# Altium footprint library BridgeC.PcbLib: 38 footprints (part 1 of 3)
Each footprint in its own frame and in the unit in brackets; x right, y up, seen from the top. Pads: shape width x height; smd on the part's side, far side on the other; paste and mask are expansions set on the pad; w line width, h text height; cw(c..) or ccw(c..) is an arc to the next point about the centre after c.
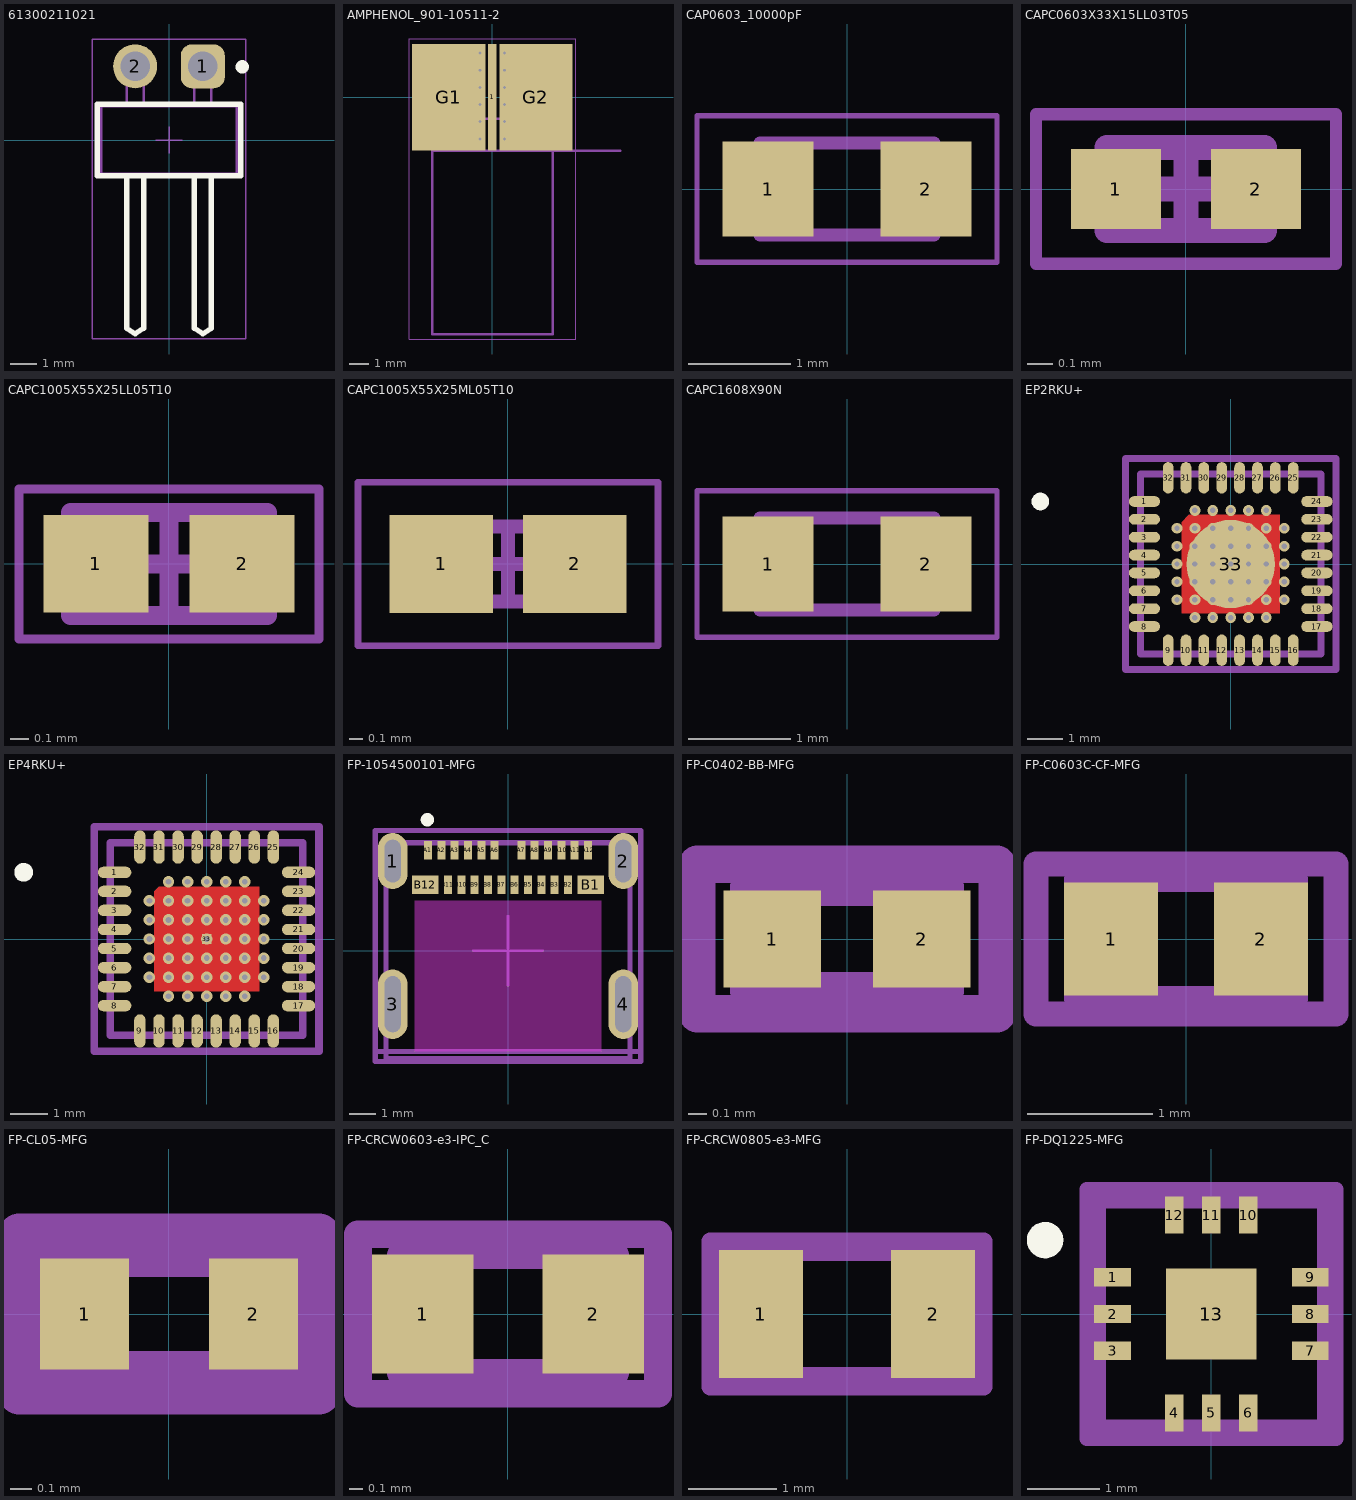
[diagram p0: the footprints below, top view; thin cyan lines are the x and y axes]

## 61300211021 [mm] "Pin Header, pitch 2.54 mm, THT, Angled, single row, 2p"
height 2.54
pads (2):
  rrect50% 1.65x1.65 hole 1.1: 1(1.27,2.77)
  round 1.65 hole 1.1: 2(-1.27,2.77)
Top Overlay:
  circle w0.25: c2.75,2.75 r0.125
  lines w0.2: -1.59,-1.345 -1.59,-7.07 -1.27,-7.27 -0.95,-7.07 -0.95,-1.345 ; 0.95,-1.345 0.95,-7.07 1.27,-7.27 1.59,-7.07 1.59,-1.345 ; -2.69,-1.345 2.69,-1.345 2.69,1.345 -2.69,1.345 -2.69,-1.345
Top Courtyard:
  lines w0.05: -2.89,-7.47 2.89,-7.47 2.89,3.795 -2.89,3.795 -2.89,-7.47
Top Designator:
  text ".Designator" at -7.498,-0.5 h1.5
Top Component Outline:
  lines w0.1: -1.59,-1.27 -1.59,-7.07 -1.27,-7.27 -0.95,-7.07 -0.95,-1.27 ; -1.59,1.27 -1.59,3.09 -0.95,3.09 -0.95,1.27 ; 0.95,-1.27 0.95,-7.07 1.27,-7.27 1.59,-7.07 1.59,-1.27 ; 0.95,1.27 0.95,3.09 1.59,3.09 1.59,1.27 ; -2.54,-1.27 -2.54,1.27 2.54,1.27 2.54,-1.27 -2.54,-1.27
Top Component Center:
  lines w0.05: -0.5,0 0.5,0 ; 0,-0.5 0,0.5
3D body "61300211021.stp": height 2.58, standoff -2.96, extent -2.54,-7.27 2.54,3.09

## AMPHENOL_901-10511-2 [mm] "SMA Straight End Launch Jack, .010 Pin, .068  PCB, Edge-Mount, High Frequency"
height 6.327
pads (3):
  rect 0.445x5.54 smd mask+0: 1(0,0)
  rect 3.8x5.54 smd mask+0: G1(-2.26,0) G2(2.26,0)
via 0.635,2.286 diameter 0.305 hole 0.152
via 0.635,1.397 diameter 0.305 hole 0.152
via 0.635,0.508 diameter 0.305 hole 0.152
via 0.635,-0.381 diameter 0.305 hole 0.152
via 0.635,-1.27 diameter 0.305 hole 0.152
via -0.635,2.286 diameter 0.305 hole 0.152
via -0.635,1.397 diameter 0.305 hole 0.152
via -0.635,0.508 diameter 0.305 hole 0.152
via -0.635,-0.381 diameter 0.305 hole 0.152
via -0.635,-1.27 diameter 0.305 hole 0.152
via 0.635,-2.159 diameter 0.305 hole 0.152
via -0.635,-2.159 diameter 0.305 hole 0.152
Mechanical 13:
  lines w0.127: -3.129,-2.77 6.65,-2.77
  text "PCB Edge" at 4.5,-2.5 h0.81
Mechanical 14:
  lines w0.127: -3.129,-12.3 3.129,-12.3 3.129,-1.119 -3.129,-1.119 -3.129,-12.3
Mechanical 15:
  lines w0.05: -4.315,-12.55 4.315,-12.55 4.315,3.02 -4.315,3.02 -4.315,-12.55
Top Component Center:
  lines w0.05: -4.315,-12.55 4.315,-12.55 4.315,3.02 -4.315,3.02 -4.315,-12.55
3D body "901-10511-2.stp": height 3.1, standoff -3.1, extent -3.134,-12.3 3.134,1.78

## CAP0603_10000pF [mm]
pads (2):
  rect 0.89x0.93 smd: 1(-0.77,0) 2(0.77,0)
Mechanical 13:
  lines w0.127: -0.85,-0.45 0.85,-0.45 0.85,0.45 -0.85,0.45 -0.85,-0.45
Mechanical 15:
  lines w0.05: -1.465,-0.715 1.465,-0.715 1.465,0.715 -1.465,0.715 -1.465,-0.715
3D body "step_temp.STEP": height 0.9, standoff 0, extent -0.8,-0.4 0.8,0.4

## CAPC0603X33X15LL03T05 [mm] "Chip Capacitor, 2-Leads, Body 0.60x0.30mm, IPC High Density"
height 0.33
pads (2):
  rect 0.36x0.32 smd: 1(-0.28,0) 2(0.28,0)
Mechanical 13:
  lines w0.1: -0.315,-0.165 -0.315,0.165 0.315,0.165 0.315,-0.165 -0.315,-0.165
Mechanical 15:
  lines w0.05: -0.6,-0.3 -0.6,0.3 0.6,0.3 0.6,-0.3 -0.6,-0.3
  lines w0.1: -0.165,0 0.165,0 ; 0,-0.165 0,0.165
3D body: height 0.33, standoff 0, extent -0.165,-0.165 0.165,0.165
3D body: height 0.33, standoff 0, extent -0.315,-0.165 -0.165,0.165
3D body: height 0.33, standoff 0, extent 0.165,-0.165 0.315,0.165

## CAPC1005X55X25LL05T10 [mm] "Chip Capacitor, 2-Leads, Body 1.00x0.50mm, IPC High Density"
height 0.55
pads (2):
  rect 0.56x0.52 smd: 1(-0.39,0) 2(0.39,0)
Mechanical 13:
  lines w0.1: -0.525,-0.275 -0.525,0.275 0.525,0.275 0.525,-0.275 -0.525,-0.275
Mechanical 15:
  lines w0.05: -0.8,-0.4 -0.8,0.4 0.8,0.4 0.8,-0.4 -0.8,-0.4
  lines w0.1: -0.275,0 0.275,0 ; 0,-0.275 0,0.275
3D body: height 0.55, standoff 0, extent -0.275,-0.275 0.275,0.275
3D body: height 0.55, standoff 0, extent -0.525,-0.275 -0.275,0.275
3D body: height 0.55, standoff 0, extent 0.275,-0.275 0.525,0.275

## CAPC1005X55X25ML05T10 [mm] "Chip Capacitor, 2-Leads, Body 1.00x0.50mm, IPC Low Density"
height 0.55
pads (2):
  rect 0.76x0.72 smd: 1(-0.49,0) 2(0.49,0)
Mechanical 13:
  lines w0.1: -0.525,-0.275 0.525,-0.275 0.525,0.275 -0.525,0.275 -0.525,-0.275
Mechanical 15:
  lines w0.05: -1.1,-0.6 1.1,-0.6 1.1,0.6 -1.1,0.6 -1.1,-0.6
  lines w0.1: -0.275,0 0.275,0 ; 0,-0.275 0,0.275
3D body: height 0.55, standoff 0, extent 0.275,-0.275 0.525,0.275
3D body: height 0.55, standoff 0, extent -0.525,-0.275 -0.275,0.275
3D body: height 0.55, standoff 0, extent -0.275,-0.275 0.275,0.275

## CAPC1608X90N [mm]
pads (2):
  rect 0.89x0.93 smd: 1(-0.77,0) 2(0.77,0)
Mechanical 13:
  lines w0.127: -0.85,-0.45 0.85,-0.45 0.85,0.45 -0.85,0.45 -0.85,-0.45
Mechanical 15:
  lines w0.05: -1.465,-0.715 1.465,-0.715 1.465,0.715 -1.465,0.715 -1.465,-0.715
3D body "step_temp.STEP": height 0.9, standoff 0, extent -0.8,-0.4 0.8,0.4

## EP2RKU+ [mil] "2 Ways MMIC Power Splitter, DC - 18000 MHz, 50?"
pads (33):
  rrect100% 35x12 smd paste+0 mask+0: 1(-96.5,70) 2(-96.5,50) 3(-96.5,30) 4(-96.5,10) 5(-96.5,-10) 6(-96.5,-30) 7(-96.5,-50) 8(-96.5,-70) 17(96.5,-70) 18(96.5,-50) 19(96.5,-30) 20(96.5,-10) 21(96.5,10) 22(96.5,30) 23(96.5,50) 24(96.5,70)
  rrect100% 12x35 smd paste+0 mask+0: 9(-70,-96.5) 10(-50,-96.5) 11(-30,-96.5) 12(-10,-96.5) 13(10,-96.5) 14(30,-96.5) 15(50,-96.5) 16(70,-96.5) 25(70,96.5) 26(50,96.5) 27(30,96.5) 28(10,96.5) 29(-10,96.5) 30(-30,96.5) 31(-50,96.5) 32(-70,96.5)
  round 99 smd paste+0 mask+0: 33(0,0)
via 0,0 diameter 12 hole 6
via 20,20 diameter 12 hole 6
via 20,0 diameter 12 hole 6
via -20,-20 diameter 12 hole 6
via -20,20 diameter 12 hole 6
via 20,-20 diameter 12 hole 6
via 0,-20 diameter 12 hole 6
via -20,0 diameter 12 hole 6
via 0,20 diameter 12 hole 6
via 40,40 diameter 12 hole 6
via 40,-40 diameter 12 hole 6
via -40,-40 diameter 12 hole 6
via -40,40 diameter 12 hole 6
via -20,40 diameter 12 hole 6
via 0,40 diameter 12 hole 6
via 20,40 diameter 12 hole 6
via 40,20 diameter 12 hole 6
via 40,0 diameter 12 hole 6
via 40,-20 diameter 12 hole 6
via 20,-40 diameter 12 hole 6
via 0,-40 diameter 12 hole 6
via -20,-40 diameter 12 hole 6
via -40,-20 diameter 12 hole 6
via -40,0 diameter 12 hole 6
via -40,20 diameter 12 hole 6
via 40,60 diameter 12 hole 6
via 20,60 diameter 12 hole 6
via 0,60 diameter 12 hole 6
via -20,60 diameter 12 hole 6
via -40,60 diameter 12 hole 6
via 60,40 diameter 12 hole 6
via 60,20 diameter 12 hole 6
via 60,0 diameter 12 hole 6
via 60,-20 diameter 12 hole 6
via 60,-40 diameter 12 hole 6
via 40,-60 diameter 12 hole 6
via 20,-60 diameter 12 hole 6
via 0,-60 diameter 12 hole 6
via -20,-60 diameter 12 hole 6
via -40,-60 diameter 12 hole 6
via -60,-40 diameter 12 hole 6
via -60,-20 diameter 12 hole 6
via -60,40 diameter 12 hole 6
via -60,20 diameter 12 hole 6
via -60,0 diameter 12 hole 6
Top Layer:
  region: -55,-55 55,-55 55,55 -47,55 -55,47
Top Overlay:
  circle w9.84: c-213,70 r4.92
Mechanical 10:
  lines w7.87: -117.94,-117.94 117.94,-117.94 117.94,117.94 -117.94,117.94 -117.94,-117.94
  text ".Designator" at 0,7.39 h39.37
Bottom Component Outline:
  lines w7.87: -101,-101 101,-101 101,101 -101,101 -101,-101
Mechanical 15:
  lines w3.94: -19.68,0 19.68,0 ; 0,-19.68 0,19.68
  lines w7.87: -117.94,-117.94 117.94,-117.94 117.94,117.94 -117.94,117.94 -117.94,-117.94
3D body "IC_Mini-Circuits_EP2RKU+_eec.STEP": height 10, standoff 0, extent -117.94,-117.94 117.94,117.94

## EP4RKU+ [mil] "DG1677-2"
height 39.37
pads (33):
  rrect100% 35x12 smd paste+0 mask+0: 1(-96.5,70) 2(-96.5,50) 3(-96.5,30) 4(-96.5,10) 5(-96.5,-10) 6(-96.5,-30) 7(-96.5,-50) 8(-96.5,-70) 17(96.5,-70) 18(96.5,-50) 19(96.5,-30) 20(96.5,-10) 21(96.5,10) 22(96.5,30) 23(96.5,50) 24(96.5,70)
  rrect100% 12x35 smd paste+0 mask+0: 9(-70,-96.5) 10(-50,-96.5) 11(-30,-96.5) 12(-10,-96.5) 13(10,-96.5) 14(30,-96.5) 15(50,-96.5) 16(70,-96.5) 25(70,96.5) 26(50,96.5) 27(30,96.5) 28(10,96.5) 29(-10,96.5) 30(-30,96.5) 31(-50,96.5) 32(-70,96.5)
  rect 10x10 smd paste+0 mask+0: 33(0,0)
via 60,20 diameter 12 hole 6
via 60,40 diameter 12 hole 6
via 40,60 diameter 12 hole 6
via 20,60 diameter 12 hole 6
via -20,60 diameter 12 hole 6
via -40,60 diameter 12 hole 6
via -60,40 diameter 12 hole 6
via -60,20 diameter 12 hole 6
via -60,-20 diameter 12 hole 6
via -60,-40 diameter 12 hole 6
via -40,-60 diameter 12 hole 6
via -20,-60 diameter 12 hole 6
via 60,-40 diameter 12 hole 6
via 60,-20 diameter 12 hole 6
via -20,-40 diameter 12 hole 6
via -40,-40 diameter 12 hole 6
via -40,-20 diameter 12 hole 6
via -40,20 diameter 12 hole 6
via -40,40 diameter 12 hole 6
via -20,40 diameter 12 hole 6
via -20,20 diameter 12 hole 6
via -20,-20 diameter 12 hole 6
via 40,-60 diameter 12 hole 6
via 20,-60 diameter 12 hole 6
via 20,-40 diameter 12 hole 6
via 40,-40 diameter 12 hole 6
via 40,-20 diameter 12 hole 6
via 20,-20 diameter 12 hole 6
via 40,40 diameter 12 hole 6
via 40,20 diameter 12 hole 6
via 20,40 diameter 12 hole 6
via 20,20 diameter 12 hole 6
via 0,-60 diameter 12 hole 6
via 0,-40 diameter 12 hole 6
via 0,-20 diameter 12 hole 6
via 0,60 diameter 12 hole 6
via 0,40 diameter 12 hole 6
via 0,20 diameter 12 hole 6
via -60,0 diameter 12 hole 6
via -40,0 diameter 12 hole 6
via -20,0 diameter 12 hole 6
via 60,0 diameter 12 hole 6
via 40,0 diameter 12 hole 6
via 20,0 diameter 12 hole 6
via 0,0 diameter 12 hole 6
Top Layer:
  region: -55,-55 -55,50 -50,55 55,55 55,-55
Top Overlay:
  circle w9.84: c-192,70 r4.92
Top Paste:
  region: -55,-55 -55,50 -50,55 55,55 55,-55
Top Solder:
  region: -55,-55 -55,50 -50,55 55,55 55,-55
Mechanical 10:
  lines w7.87: -117.94,-117.94 -117.94,117.94 117.94,117.94 117.94,-117.94 -117.94,-117.94
  text ".Designator" at 0,7.39 h39.37
Bottom Component Outline:
  lines w7.87: -101,-101 -101,101 101,101 101,-101 -101,-101
Mechanical 15:
  lines w3.94: -19.68,0 19.68,0 ; 0,-19.68 0,19.68
  lines w7.87: -117.94,-117.94 -117.94,117.94 117.94,117.94 117.94,-117.94 -117.94,-117.94
3D body "IC_Mini-Circuits_EP4RKU+_eec.STEP": height 10, standoff 0, extent -117.94,-117.94 117.94,117.94

## FP-1054500101-MFG [mm]
pads (28):
  rrect100% 1.1x2.1 hole 1.6 slot 0.6 at 0 deg paste-2539.97 mask+0: 1(-4.32,3.36) 2(4.32,3.36)
  rrect100% 1.1x2.6 hole 2.1 slot 0.6 at 0 deg paste-2539.97 mask+0: 3(-4.32,-2) 4(4.32,-2)
  rect 0.3x0.7 smd paste+0 mask+0: A1(-3,3.77) A2(-2.5,3.77) A3(-2,3.77) A4(-1.5,3.77) A5(-1,3.77) A6(-0.5,3.77) A7(0.5,3.77) A8(1,3.77) A9(1.5,3.77) A10(2,3.77) A11(2.5,3.77) A12(3,3.77) B2(2.25,2.47) B3(1.75,2.47) B4(1.25,2.47) B5(0.75,2.47) B6(0.25,2.47) B7(-0.25,2.47) B8(-0.75,2.47) B9(-1.25,2.47) B10(-1.75,2.47) B11(-2.25,2.47)
  rect 1x0.7 smd paste+0 mask+0: B1(3.1,2.47) B12(-3.1,2.47)
Top Overlay:
  circle w0.25: c-3.02,4.91 r0.125
Keep-Out Layer:
  rectangle: -3.5,-3.77 3.5,1.88
Top 3D Body:
  lines w0.2: -4.97,-3.77 4.97,-3.77 ; -4.57,-4.05 4.57,-4.05 4.57,4.05 -4.57,4.05 -4.57,-4.05
Top Courtyard:
  lines w0.2: -4.97,-4.15 4.97,-4.15 4.97,4.51 -4.97,4.51 -4.97,-4.15
Top Assembly:
  lines w0.2: -4.97,-4.15 4.97,-4.15 4.97,4.51 -4.97,4.51 -4.97,-4.15
  text ".Designator" at 5.588,0.188 h1
Top Component Center:
  lines w0.1: -1.299,0 1.299,0 ; 0,-1.299 0,1.299
3D body "1054500101.stp": height 3.21, standoff -0.75, extent -4.47,-3.938 4.47,3.962

## FP-C0402-BB-MFG [mm]
pads (2):
  rect 0.52x0.52 smd paste+0 mask+0: 1(-0.4,0) 2(0.4,0)
Top 3D Body:
  lines w0.2: -0.525,-0.275 0.525,-0.275 0.525,0.275 -0.525,0.275 -0.525,-0.275
Top Courtyard:
  lines w0.2: -0.8,-0.4 0.8,-0.4 0.8,0.4 -0.8,0.4 -0.8,-0.4
Top Assembly:
  lines w0.2: -0.8,-0.4 0.8,-0.4 0.8,0.4 -0.8,0.4 -0.8,-0.4
  text ".Designator" at 1.016,-0.32 h1
3D body "Cap_Kemet_C0402C562J5RACTU_eec.STEP": height 0.25, standoff 0, extent -0.8,-0.4 0.8,0.4

## FP-C0603C-CF-MFG [mm]
pads (2):
  rect 0.75x0.9 smd paste+0 mask+0: 1(-0.6,0) 2(0.6,0)
Top 3D Body:
  lines w0.2: -0.875,-0.475 0.875,-0.475 0.875,0.475 -0.875,0.475 -0.875,-0.475
Top Courtyard:
  lines w0.2: -1.2,-0.6 1.2,-0.6 1.2,0.6 -1.2,0.6 -1.2,-0.6
Top Assembly:
  lines w0.2: -1.2,-0.6 1.2,-0.6 1.2,0.6 -1.2,0.6 -1.2,-0.6
  text ".Designator" at 1.397,-0.32 h1
3D body "Cap_KEMET_C0603C272M5JACTU_eec.STEP": height 0.25, standoff 0, extent -1.2,-0.6 1.2,0.6

## FP-CL05-MFG [mm]
pads (2):
  rect 0.42x0.525 smd paste+0 mask+0: 1(-0.397,0) 2(0.397,0)
Top 3D Body:
  lines w0.2: -0.525,-0.275 -0.525,0.275 0.525,0.275 0.525,-0.275 -0.525,-0.275
Top Courtyard:
  lines w0.2: -0.707,-0.375 -0.707,0.375 0.707,0.375 0.707,-0.375 -0.707,-0.375
Top Assembly:
  lines w0.2: -0.707,-0.375 -0.707,0.375 0.707,0.375 0.707,-0.375 -0.707,-0.375
  text ".Designator" at 0.889,-0.32 h1
3D body "Cap_Samsung_CL05C101JB5NNNC_eec.STEP": height 0.25, standoff 0, extent -0.707,-0.375 0.707,0.375

## FP-CRCW0603-e3-IPC_C [mm]
pads (2):
  rect 0.735x0.862 smd paste+0 mask+0: 1(-0.615,0) 2(0.615,0)
Top 3D Body:
  lines w0.2: -0.775,-0.425 0.775,-0.425 0.775,0.425 -0.775,0.425 -0.775,-0.425
Top Courtyard:
  lines w0.2: -1.083,-0.575 1.083,-0.575 1.083,0.575 -1.083,0.575 -1.083,-0.575
Top Assembly:
  lines w0.2: -1.083,-0.575 1.083,-0.575 1.083,0.575 -1.083,0.575 -1.083,-0.575
  text ".Designator" at 1.397,-0.193 h1
3D body "Res_Vishay_CRCW06033M90FKEC_eec.STEP": height 0.25, standoff 0, extent -1.083,-0.575 1.083,0.575

## FP-CRCW0805-e3-MFG [mm]
pads (2):
  rect 0.95x1.45 smd paste+0 mask+0: 1(-0.975,0) 2(0.975,0)
Top 3D Body:
  lines w0.2: -1.1,-0.7 1.1,-0.7 1.1,0.7 -1.1,0.7 -1.1,-0.7
Top Courtyard:
  lines w0.2: -1.55,-0.825 1.55,-0.825 1.55,0.825 -1.55,0.825 -1.55,-0.825
Top Assembly:
  lines w0.2: -1.55,-0.825 1.55,-0.825 1.55,0.825 -1.55,0.825 -1.55,-0.825
  text ".Designator" at 1.778,-0.193 h1
3D body "Res_Vishay_CRCW0805100KFKEA_eec.STEP": height 0.25, standoff 0, extent -1.55,-0.825 1.55,0.825

## FP-DQ1225-MFG [mil]
pads (13):
  rect 20x10 smd paste+0 mask+0: 1(-53.5,20) 2(-53.5,0) 3(-53.5,-20) 7(53.5,-20) 8(53.5,0) 9(53.5,20)
  rect 10x20 smd paste+0 mask+0: 4(-20,-53.5) 5(0,-53.5) 6(20,-53.5) 10(20,53.5) 11(0,53.5) 12(-20,53.5)
  rect 49x49 smd paste+0 mask+0: 13(0,0)
Top Overlay:
  circle w9.84: c-90,40 r4.92
Top 3D Body:
  lines w7.87: -61,-61 61,-61 61,61 -61,61 -61,-61
Top Courtyard:
  lines w7.87: -67.44,-67.44 67.44,-67.44 67.44,67.44 -67.44,67.44 -67.44,-67.44
Top Assembly:
  lines w7.87: -67.44,-67.44 67.44,-67.44 67.44,67.44 -67.44,67.44 -67.44,-67.44
  text ".Designator" at 80,-7.6 h39.37
Top Component Center:
  lines w3.94: -19.68,0 19.68,0 ; 0,-19.68 0,19.68
3D body "IC_Mini-Circuits_PMA3-83LN+_eec.STEP": height 10, standoff 0, extent -67.44,-67.44 67.44,67.44